# EAGLE library part USB-2.0-MICRO (library Connectors)
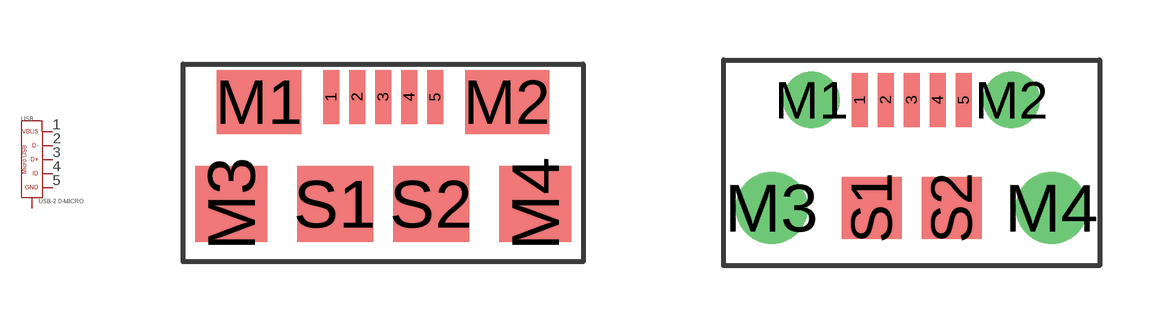
[diagram p3: symbol with the pads of MICRO-USB-B-SMD-SMD; footprints MICRO-USB-B-SMD-SMD, MICRO-USB-B-SMD-TH]

Designator prefix USB

## USB-2.0-MICRO_SMD_SMD  [MICRO-USB-B-SMD-SMD]
1  VBUS  pas
2  D-  pas
3  D+  pas
4  ID  pas
5  GND  pas
M1  SHIELD  pas
M2  SHIELD  pas
M3  SHIELD  pas
M4  SHIELD  pas
S1  SHIELD  pas
S2  SHIELD  pas

## USB-2.0-MICRO_SMD_TH  [MICRO-USB-B-SMD-TH]
1  VBUS  pas
2  D-  pas
3  D+  pas
4  ID  pas
5  GND  pas
S1  SHIELD  pas
S2  SHIELD  pas

## Footprint MICRO-USB-B-SMD-SMD (pad centres in mm)
smd 0.4 x 1.35: 1 -1.3,2.675; 2 -0.65,2.675; 3 0,2.675; 4 0.65,2.675; 5 1.3,2.675
smd 2.1 x 1.6: M1 -3.1,2.55; M2 3.1,2.55
smd 1.8 x 1.9: M3 -3.8,0; M4 3.8,0
smd 1.9 x 1.9: S1 -1.2,0; S2 1.2,0

## Footprint MICRO-USB-B-SMD-TH (pad centres in mm)
smd 0.4 x 1.35: 1 -1.3,2.7; 2 -0.65,2.7; 3 0,2.7; 4 0.65,2.7; 5 1.3,2.7
drill 0.9: M1 -2.5,2.7; M2 2.5,2.7
drill 1.2: M3 -3.5,0; M4 3.5,0
smd 1.5 x 1.55: S1 -1,0; S2 1,0